# EAGLE library part BAS40-05V (library LinnesLab-DiscreteSemi)
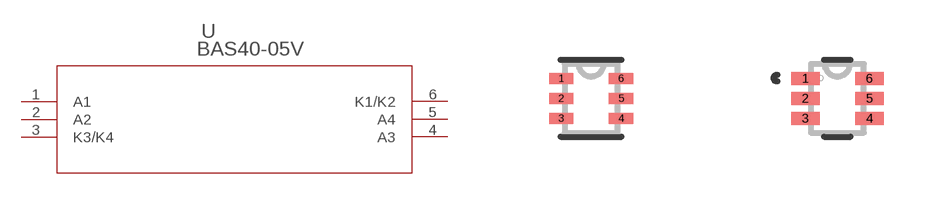
[diagram p4: symbol with the pads of SOT666_NXP; footprints SOT666_NXP, SOT666_NXP-M]

Designator prefix U

## BAS40-05V (COPYRIGHT: Copyright (C) 2022 Ultra Librarian. All rights reserved.; DIGI-KEY_PART_NUMBER_1: 568-11084-2-ND; DIGI-KEY_PART_NUMBER_2: 568-11084-1-ND; DIGI-KEY_PART_NUMBER_3: 568-11084-6-ND; MANUFACTURER_PART_NUMBER: BAS40-05V; MFR_NAME: NXP)  [SOT666_NXP]
1  A1  pas
2  A2  pas
3  K3/K4  pas
4  A3  pas
5  A4  pas
6  K1/K2  pas

## BAS40-05VSOT666_NXP-M (COPYRIGHT: Copyright (C) 2022 Ultra Librarian. All rights reserved.; DIGI-KEY_PART_NUMBER_1: 568-11084-2-ND; DIGI-KEY_PART_NUMBER_2: 568-11084-1-ND; DIGI-KEY_PART_NUMBER_3: 568-11084-6-ND; MANUFACTURER_PART_NUMBER: BAS40-05V; MFR_NAME: NXP)  [SOT666_NXP-M]
Pads as for SOT666_NXP

## BAS40-05VSOT666_NXP-L (COPYRIGHT: Copyright (C) 2022 Ultra Librarian. All rights reserved.; DIGI-KEY_PART_NUMBER_1: 568-11084-2-ND; DIGI-KEY_PART_NUMBER_2: 568-11084-1-ND; DIGI-KEY_PART_NUMBER_3: 568-11084-6-ND; MANUFACTURER_PART_NUMBER: BAS40-05V; MFR_NAME: NXP)  [SOT666_NXP-L]
Pads as for SOT666_NXP

## Footprint SOT666_NXP (pad centres in mm)
smd 0.61 x 0.279: 1 -0.749,0.5; 2 -0.749,0; 3 -0.749,-0.5; 4 0.749,-0.5; 5 0.749,0; 6 0.749,0.5

## Footprint SOT666_NXP-M (pad centres in mm)
smd 0.711 x 0.33: 1 -0.8,0.5; 2 -0.8,0; 3 -0.8,-0.5; 4 0.8,-0.5; 5 0.8,0; 6 0.8,0.5

## Footprint SOT666_NXP-L (pad centres in mm)
smd 0.508 x 0.229: 1 -0.699,0.5; 2 -0.699,0; 3 -0.699,-0.5; 4 0.699,-0.5; 5 0.699,0; 6 0.699,0.5